# EAGLE library part APDS-9960 (library APDS-9960)
BROADCOM LIMITED - APDS-9960 - SENSOR, PROXIMITY/GESTURE, 2.4V TO 3.6V Source: Datasheet <https://docs.broadcom.com/docs/AV02-4191EN>
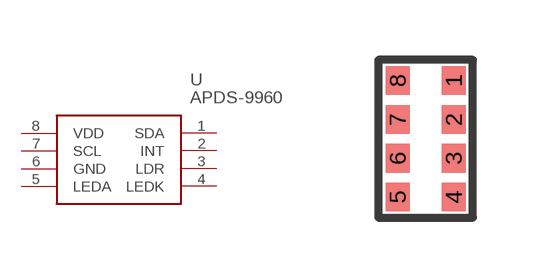
[diagram p0: symbol with the pads of APDS-9950; footprint APDS-9950]

Designator prefix U

## APDS-9960 (ARROW_PART_NUMBER: APDS-9960; ARROW_PRICE-STOCK: https://www.arrow.com/en/products/apds-9960/broadcom-limited?region=nac; DESCRIPTION: BROADCOM LIMITED - APDS-9960 - SENSOR, PROXIMITY/GESTURE, 2.4V TO 3.6V; HEIGHT: mm; MANUFACTURER_NAME: Avago Technologies; MANUFACTURER_PART_NUMBER: APDS-9960; MOUSER_PART_NUMBER: 630-APDS-9960; MOUSER_PRICE-STOCK: https://www.mouser.co.uk/ProductDetail/Broadcom-Avago/APDS-9960?qs=9j6qqDjiC68hPiaH59tKpQ%3D%3D)  [APDS-9950]
1  SDA
2  INT
3  LDR
4  LEDK
5  LEDA
6  GND
7  SCL
8  VDD

## Footprint APDS-9950 (pad centres in mm)
APDS-9950
smd 0.6 x 0.72: 1 0.7,1.455; 2 0.7,0.485; 3 0.7,-0.485; 4 0.7,-1.455; 5 -0.7,-1.455; 6 -0.7,-0.485; 7 -0.7,0.485; 8 -0.7,1.455